# Altium footprint library Adafruit PyGamer.PCBLIB: 205 footprints (part 1 of 13)
Each footprint in its own frame and in the unit in brackets; x right, y up, seen from the top. Pads: shape width x height; smd on the part's side, far side on the other; paste and mask are expansions set on the pad; w line width, h text height; cw(c..) or ccw(c..) is an arc to the next point about the centre after c.
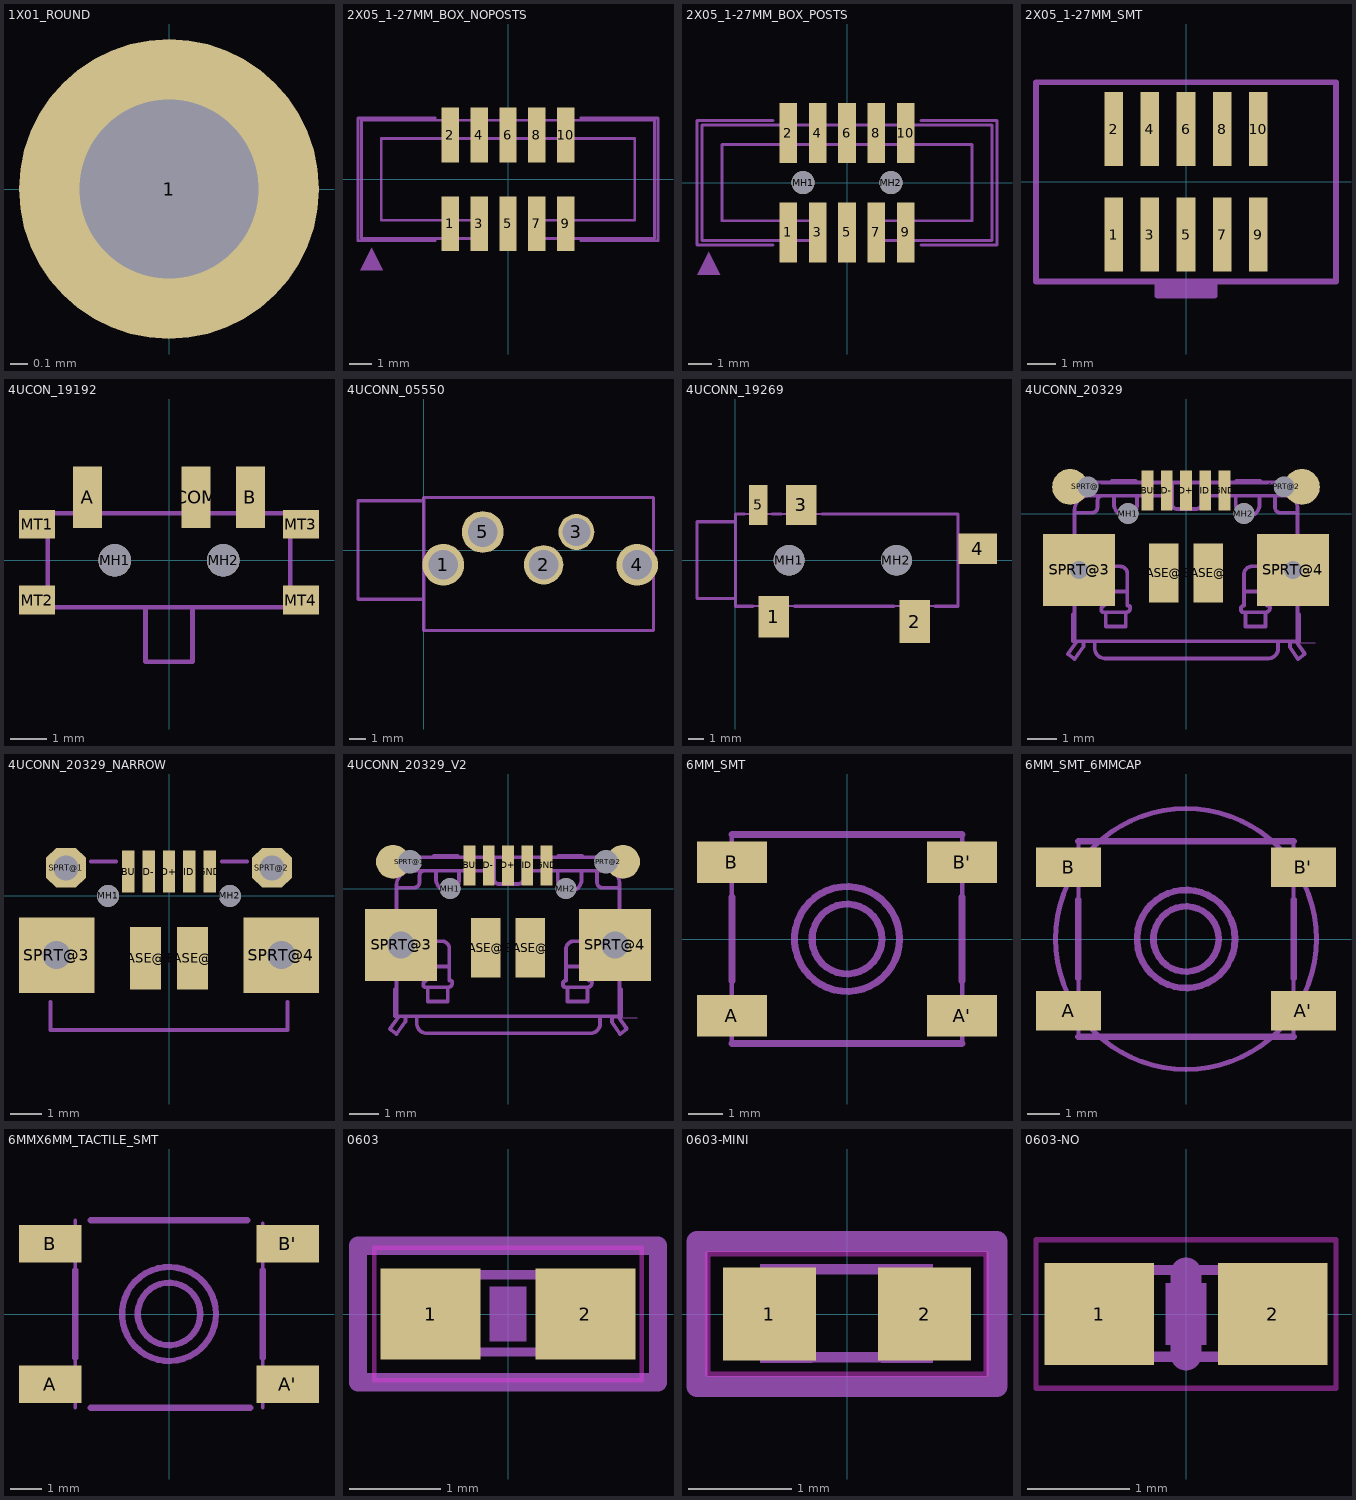
[diagram p0: the footprints below, top view; thin cyan lines are the x and y axes]

## 1X01_ROUND [mil]
pads (1):
  round 66 hole 39.37: 1(0,0)
tDocu:
  region: -10,-10 -10,10 10,10 10,-10

## 2X05_1-27MM_BOX_NOPOSTS [mil]
pads (10):
  rect 29.92x94.49 smd: 1(-100,-76.77) 2(-100,76.77) 3(-50,-76.77) 4(-50,76.77) 5(0,-76.77) 6(0,76.77) 7(50,-76.77) 8(50,76.77) 9(100,-76.77) 10(100,76.77)
tDocu:
  lines w5: -253.94,-102.36 -253.94,102.36 253.94,102.36 253.94,-102.36 47.24,-102.36 47.24,-70.87 219.49,-70.87 219.49,70.87 -219.49,70.87 -219.49,-70.87 -47.24,-70.87 -47.24,-102.36 -253.94,-102.36
tPlace:
  region: -255.91,-157.48 -216.54,-157.48 -236.22,-118.11
  lines w5: -125.98,-106.3 -259.84,-106.3 -259.84,106.3 -125.98,106.3 ; 125.98,-106.3 259.84,-106.3 259.84,106.3 125.98,106.3

## 2X05_1-27MM_BOX_POSTS [mm]
pads (12):
  rect 0.76x2.6 smd: 1(-2.54,-2.15) 2(-2.54,2.15) 3(-1.27,-2.15) 4(-1.27,2.15) 5(0,-2.15) 6(0,2.15) 7(1.27,-2.15) 8(1.27,2.15) 9(2.54,-2.15) 10(2.54,2.15)
  round 1 hole 1 unplated: MH1(-1.905,0) MH2(1.905,0)
tDocu:
  lines w0.127: -6.275,-2.5 -6.275,2.5 6.275,2.5 6.275,-2.5 1.25,-2.5 1.25,-1.65 5.425,-1.65 5.425,1.65 -5.425,1.65 -5.425,-1.65 -1.25,-1.65 -1.25,-2.5 -6.275,-2.5
tPlace:
  region: -6.5,-4 -5.5,-4 -6,-3
  lines w0.127: -3.2,-2.7 -6.5,-2.7 -6.5,2.7 -3.2,2.7 ; 3.2,-2.7 6.5,-2.7 6.5,2.7 3.2,2.7

## 2X05_1-27MM_SMT [mm]
pads (10):
  rect 0.65x2.6 smd: 1(-2.54,-1.85) 2(-2.54,1.85) 3(-1.27,-1.85) 4(-1.27,1.85) 5(0,-1.85) 6(0,1.85) 7(1.27,-1.85) 8(1.27,1.85) 9(2.54,-1.85) 10(2.54,1.85)
tPlace:
  region: 1.016,-3.556 1.016,-3.937 -1.016,-3.937 -1.016,-3.556
  lines w0.203: -1,-3.5 1,-3.5 ; -1,-3.5 -5.27,-3.5 -5.27,3.5 5.27,3.5 5.27,-3.5 1,-3.5 ; -1,-3.5 -1,-4 1,-4 1,-3.5

## 4UCON_19192 [mil]
pads (9):
  rect 31.5x66.93 smd: A(-88.58,68.9) B(88.58,68.9) COM(29.53,68.9)
  round 35.43 hole 35.43 unplated: MH1(-59.06,0) MH2(59.06,0)
  rect 39.37x31.5 smd: MT1(-143.7,39.37) MT2(-143.7,-43.31) MT3(143.7,39.37) MT4(143.7,-43.31)
tPlace:
  lines w5: -25.59,-51.18 25.59,-51.18 ; -25.59,-51.18 -131.89,-51.18 -131.89,51.18 131.89,51.18 131.89,-51.18 25.59,-51.18 ; -25.59,-51.18 -25.59,-110.24 25.59,-110.24 25.59,-51.18

## 4UCONN_05550 [mil]
pads (5):
  round 100 hole 70.87: 1(47.24,-35.43) 4(511.81,-35.43) 5(141.73,43.31)
  round 94.49 hole 70.87: 2(287.4,-35.43)
  round 86 hole 66.93: 3(366.14,43.31)
tDocu:
  lines w5: 0,-192.91 551.18,-192.91 ; 0,125.98 551.18,125.98
  lines w8: 0,-192.91 0,-118.11 ; 0,125.98 0,118.11 ; 551.18,-192.91 551.18,125.98 ; 0,-118.11 0,118.11 ; 0,-118.11 -157.48,-118.11 -157.48,118.11 0,118.11
tPlace:
  lines w8: 0,-192.91 551.18,-192.91 551.18,-110.24 ; 0,125.98 551.18,125.98 551.18,43.31

## 4UCONN_19269 [mm]
pads (7):
  rect 2x2.7 smd: 1(2.5,-3.7)
  rect 2x2.8 smd: 2(11.7,-4)
  rect 2x2.6 smd: 3(4.3,3.6)
  rect 2.5x2 smd: 4(15.8,0.75)
  rect 1.2x2.6 smd: 5(1.5,3.6)
  round 2 hole 2 unplated: MH1(3.5,0) MH2(10.5,0)
tDocu:
  region: 3.5,3 3.5,4.4 5.1,4.4 5.1,3
  region: 1.7,-4.45 1.7,-3.05 3.3,-3.05 3.3,-4.45
  region: 10.9,-4.45 10.9,-3.05 12.5,-3.05 12.5,-4.45
  region: 15.95,-0.05 14.55,-0.05 14.55,1.55 15.95,1.55
  region: 1.05,3 1.05,4.4 1.95,4.4 1.95,3
  region: 14.5,-0.1 14.5,1.6 16.7,1.6 16.7,-0.1
  region: 10.9,-5.2 10.9,-3 12.5,-3 12.5,-5.2
  region: 1.7,-4.7 1.7,-3 3.3,-3 3.3,-4.7
  region: 3.5,3 3.5,4.6 5.1,4.6 5.1,3
  region: 1,3 1,4.6 2,4.6 2,3
  lines w0.127: 0,-3 14.5,-3 ; 0,3 14.5,3
  lines w0.203: 0,-3 0,-2.5 ; 0,2.95 0,2.5 ; 14.5,-3 14.5,3 ; 0,-2.5 0,2.5 ; 0,-2.5 -2.5,-2.5 -2.5,2.5 0,2.5
tPlace:
  lines w0.203: 0,-3 0,3 0.6,3 ; 0.05,-3 1.15,-3 ; 2.4,3 3,3 ; 3.85,-3 10.35,-3 ; 5.65,3 14.5,3 14.5,2.1 ; 13,-3 14.5,-3 14.5,-0.6

## 4UCONN_20329 [mm]
pads (13):
  rect 1x2 smd: BASE@1(-0.75,-2) BASE@2(0.75,-2)
  rect 0.4x1.35 smd paste+0 mask+0: D+(0,0.775) D-(-0.65,0.775) GND(1.3,0.775) ID(0.65,0.775) VBUS(-1.3,0.775)
  round 0.7 hole 0.7 unplated: MH1(-1.95,0) MH2(1.95,0)
  round 1.208 hole 0.7 copper offset -0.604,0: SPRT@1(-3.3,0.9)
  round 1.208 hole 0.7 copper offset 0.604,0: SPRT@2(3.3,0.9)
  rect 2.413x2.413 / inner round 2.229 / far side rect 2.413x2.413 hole 0.6: SPRT@3(-3.6,-1.9) SPRT@4(3.6,-1.9)
Top Paste:
  region: -4.85,-3.15 -4.85,-0.65 -2.35,-0.65 -2.35,-3.15
  region: 2.35,-3.15 2.35,-0.65 4.85,-0.65 4.85,-3.15
  region: -1.45,0.15 -1.45,1.4 -1.15,1.4 -1.15,0.15
  region: -0.8,0.15 -0.8,1.4 -0.5,1.4 -0.5,0.15
  region: -0.15,0.15 -0.15,1.4 0.15,1.4 0.15,0.15
  region: 0.5,0.15 0.5,1.4 0.8,1.4 0.8,0.15
  region: 1.15,0.15 1.15,1.4 1.45,1.4 1.45,0.15
  region: -5.05,0.9 -5.045,0.786 -4.948,0.578 -4.78,0.423 -4.564,0.345 -4.45,0.35 -3.35,0.35 -3.236,0.345 -3.021,0.423 -2.852,0.578 -2.755,0.786 -2.75,0.9 -2.755,1.014 -2.852,1.222 -3.02,1.377 -3.236,1.455 -3.35,1.45 -4.45,1.45 -4.564,1.455 -4.78,1.377 -4.948,1.222 -5.045,1.014 -5.05,0.9
  region: 2.75,0.9 2.755,0.786 2.852,0.578 3.021,0.423 3.236,0.345 3.35,0.35 4.45,0.35 4.564,0.345 4.78,0.423 4.948,0.578 5.045,0.786 5.05,0.9 5.045,1.014 4.948,1.222 4.78,1.377 4.564,1.455 4.45,1.45 3.35,1.45 3.236,1.455 3.02,1.377 2.852,1.222 2.755,1.014 2.75,0.9
Top Solder:
  region: -1.55,0.05 -1.55,1.5 -1.05,1.5 -1.05,0.05
  region: -0.9,0.05 -0.9,1.5 -0.4,1.5 -0.4,0.05
  region: -0.25,0.05 -0.25,1.5 0.25,1.5 0.25,0.05
  region: 0.4,0.05 0.4,1.5 0.9,1.5 0.9,0.05
  region: 1.05,0.05 1.05,1.5 1.55,1.5 1.55,0.05
Dimension:
  lines w0: -3.9,-2.2 ccw(c-3.625,-2.175) -3.6,-2.45 ccw(c-3.575,-2.175) -3.3,-2.2 -3.3,-1.6 ccw(c-3.575,-1.625) -3.6,-1.35 ccw(c-3.625,-1.625) -3.9,-1.6 -3.9,-2.2 ; 3.3,-2.2 ccw(c3.575,-2.175) 3.6,-2.45 ccw(c3.625,-2.175) 3.9,-2.2 3.9,-1.6 ccw(c3.625,-1.625) 3.6,-1.35 ccw(c3.575,-1.625) 3.3,-1.6 3.3,-2.2
tDocu:
  lines w0: 3.5,-4.35 4.35,-4.35
  lines w0.127: -3.725,0.025 -3.175,0.025 ccw(c-3.175,0.225) -2.975,0.225 -2.975,0.45 cw(c-2.825,0.45) -2.825,0.6 ; -3.425,0.625 -3.425,0.75 -3.575,0.75 -3.575,1.05 -0.475,1.05 ; -2,-3.325 -2.7,-3.325 ; -2,-2.625 -2.75,-2.625 ; -0.125,0.175 -0.125,0.65 0.1,0.65 0.1,0.175 ; 2.7,-3.325 2,-3.325 ; 2.7,-2.625 1.95,-2.625 ; 3.5,-4.35 3.5,-4.5 3.775,-4.9 4,-4.725 3.7,-4.3 ; 3.725,0.025 3.175,0.025 cw(c3.175,0.2) 3,0.2 3,0.525 ccw(c2.925,0.525) 2.925,0.6 ; -3.675,-4.3 -3.75,-4.3 -3.75,0.125 cw(c-3.275,0.125) -3.275,0.6 -2.825,0.6 ; -3.675,-4.3 -3.45,-4.3 ; -3.675,-4.3 -3.975,-4.725 -3.75,-4.9 -3.45,-4.475 -3.45,-4.3 ; -3.45,-4.3 -3.075,-4.3 ; -3.075,-4.3 3.1,-4.3 ; -3.075,-4.3 -3.075,-4.525 ccw(c-2.725,-4.525) -2.725,-4.875 2.775,-4.875 ccw(c2.775,-4.55) 3.1,-4.55 3.1,-4.3 ; -2.825,0.6 -2.5,0.6 ; -2.75,-2.625 -2.75,-3.1 ccw(c-2.75,-3.2) -2.85,-3.2 -2.85,-3.225 ccw(c-2.762,-3.238) -2.775,-3.325 -2.7,-3.325 ; -2.75,-2.625 -2.75,-2.05 cw(c-2.475,-2.05) -2.475,-1.775 -2.225,-1.775 cw(c-2.225,-2.025) -1.975,-2.025 -1.975,-3.1 -1.95,-3.1 cw(c-1.95,-3.175) -1.875,-3.175 cw(c-2.025,-3.175) -2.025,-3.325 -2.025,-3.8 -2.7,-3.8 -2.7,-3.325 ; -2.5,0.6 -1.65,0.6 ; -2.5,0.6 cw(c-2.5,0.525) -2.425,0.525 -2.425,0.325 ccw(c-2,0.325) -2,-0.1 ccw(c-2,0.25) -1.65,0.25 -1.65,0.6 ; -1.65,0.6 -0.475,0.6 ; -0.475,0.6 -0.475,0.325 ccw(c-0.3,0.325) -0.3,0.15 0.325,0.15 ccw(c0.325,0.35) 0.525,0.35 0.525,0.6 ; -0.475,0.6 -0.475,1.05 ; -0.475,1.05 0.525,1.05 ; 0.525,0.6 1.675,0.6 ; 0.525,0.6 0.525,1.05 ; 0.525,1.05 3.6,1.05 3.6,0.775 3.35,0.775 3.35,0.6 ; 1.675,0.6 2.475,0.6 ; 1.675,0.6 1.675,0.3 ccw(c2.075,0.3) 2.075,-0.1 ccw(c2.075,0.3) 2.475,0.3 2.475,0.6 ; 1.95,-2.625 1.95,-3.1 ccw(c1.95,-3.2) 1.85,-3.2 1.85,-3.225 ccw(c1.938,-3.237) 1.925,-3.325 2,-3.325 ; 1.95,-2.625 1.95,-2.05 cw(c2.225,-2.05) 2.225,-1.775 2.475,-1.775 cw(c2.475,-2.025) 2.725,-2.025 2.725,-3.1 2.75,-3.1 cw(c2.75,-3.175) 2.825,-3.175 cw(c2.675,-3.175) 2.675,-3.325 2.675,-3.8 2,-3.8 2,-3.325 ; 2.475,0.6 2.925,0.6 ; 2.925,0.6 3.35,0.6 ; 3.1,-4.3 3.7,-4.3 ; 3.35,0.6 cw(c3.35,0.2) 3.75,0.2 3.75,-4.3 3.7,-4.3
  text "PCB EDGE" at 0,-4 h0.63
tPlace:
  lines w0.127: -3.8,-3.4 -3.8,-4.3 3.8,-4.3 3.8,-3.4 ; -2.5,1.1 -1.7,1.1 ; 1.7,1.1 2.5,1.1

## 4UCONN_20329_NARROW [mm]
pads (13):
  rect 1x2 smd: BASE@1(-0.75,-2) BASE@2(0.75,-2)
  rect 0.4x1.35 smd: D+(0,0.775) D-(-0.65,0.775) GND(1.3,0.775) ID(0.65,0.775) VBUS(-1.3,0.775)
  round 0.7 hole 0.7 unplated: MH1(-1.95,0) MH2(1.95,0)
  oct 1.27x1.27 / inner round 1.173 / far side oct 1.27x1.27 hole 0.8: SPRT@1(-3.3,0.9) SPRT@2(3.3,0.9)
  rect 2.413x2.413 / inner round 2.229 / far side rect 2.413x2.413 hole 0.9: SPRT@3(-3.6,-1.9) SPRT@4(3.6,-1.9)
Top Paste:
  region: -4.801,-3.099 -4.801,-0.686 -2.388,-0.686 -2.388,-3.099
  region: 2.388,-3.099 2.388,-0.686 4.801,-0.686 4.801,-3.099
  region: 3.048,1.524 3.581,1.524 3.937,1.168 3.937,0.686 3.556,0.305 3.048,0.305 2.692,0.66 2.692,1.168
  region: -3.581,1.524 -3.048,1.524 -2.692,1.168 -2.692,0.686 -3.073,0.305 -3.581,0.305 -3.937,0.66 -3.937,1.168
Milling:
  lines w0: -4.05,-2.15 ccw(c-3.675,-2.175) -3.7,-2.55 -3.5,-2.55 ccw(c-3.525,-2.175) -3.15,-2.15 -3.15,-1.6 ccw(c-3.5,-1.6) -3.5,-1.25 -3.7,-1.25 ccw(c-3.7,-1.6) -4.05,-1.6 -4.05,-2.15 ; 3.15,-2.2 ccw(c3.55,-2.15) 3.6,-2.55 ccw(c3.65,-2.15) 4.05,-2.2 4.05,-1.6 ccw(c3.65,-1.65) 3.6,-1.25 ccw(c3.55,-1.65) 3.15,-1.6 3.15,-2.2
tPlace:
  lines w0.127: -3.8,-3.4 -3.8,-4.3 3.8,-4.3 3.8,-3.4 ; -2.5,1.1 -1.7,1.1 ; 1.7,1.1 2.5,1.1

## 4UCONN_20329_V2 [mm]
pads (13):
  rect 1x2 smd: BASE@1(-0.75,-2) BASE@2(0.75,-2)
  rect 0.4x1.35 smd paste+0 mask+0: D+(0,0.775) D-(-0.65,0.775) GND(1.3,0.775) ID(0.65,0.775) VBUS(-1.3,0.775)
  round 0.7 hole 0.7 unplated: MH1(-1.95,0) MH2(1.95,0)
  round 1.143 hole 0.8 copper offset -0.572,0: SPRT@1(-3.3,0.9)
  round 1.143 hole 0.8 copper offset 0.572,0: SPRT@2(3.3,0.9)
  rect 2.413x2.413 / inner round 2.229 / far side rect 2.413x2.413 hole 0.9: SPRT@3(-3.6,-1.9) SPRT@4(3.6,-1.9)
Top Paste:
  region: -4.85,-3.15 -4.85,-0.65 -2.35,-0.65 -2.35,-3.15
  region: 2.35,-3.15 2.35,-0.65 4.85,-0.65 4.85,-3.15
  region: -1.45,0.15 -1.45,1.4 -1.15,1.4 -1.15,0.15
  region: -0.8,0.15 -0.8,1.4 -0.5,1.4 -0.5,0.15
  region: -0.15,0.15 -0.15,1.4 0.15,1.4 0.15,0.15
  region: 0.5,0.15 0.5,1.4 0.8,1.4 0.8,0.15
  region: 1.15,0.15 1.15,1.4 1.45,1.4 1.45,0.15
  region: -5.05,0.9 -5.045,0.786 -4.948,0.578 -4.78,0.423 -4.564,0.345 -4.45,0.35 -3.35,0.35 -3.236,0.345 -3.021,0.423 -2.852,0.578 -2.755,0.786 -2.75,0.9 -2.755,1.014 -2.852,1.222 -3.02,1.377 -3.236,1.455 -3.35,1.45 -4.45,1.45 -4.564,1.455 -4.78,1.377 -4.948,1.222 -5.045,1.014 -5.05,0.9
  region: 2.75,0.9 2.755,0.786 2.852,0.578 3.021,0.423 3.236,0.345 3.35,0.35 4.45,0.35 4.564,0.345 4.78,0.423 4.948,0.578 5.045,0.786 5.05,0.9 5.045,1.014 4.948,1.222 4.78,1.377 4.564,1.455 4.45,1.45 3.35,1.45 3.236,1.455 3.02,1.377 2.852,1.222 2.755,1.014 2.75,0.9
Top Solder:
  region: -1.55,0.05 -1.55,1.5 -1.05,1.5 -1.05,0.05
  region: -0.9,0.05 -0.9,1.5 -0.4,1.5 -0.4,0.05
  region: -0.25,0.05 -0.25,1.5 0.25,1.5 0.25,0.05
  region: 0.4,0.05 0.4,1.5 0.9,1.5 0.9,0.05
  region: 1.05,0.05 1.05,1.5 1.55,1.5 1.55,0.05
Milling:
  lines w0: -4.05,-2.15 ccw(c-3.675,-2.175) -3.7,-2.55 -3.5,-2.55 ccw(c-3.525,-2.175) -3.15,-2.15 -3.15,-1.6 ccw(c-3.5,-1.6) -3.5,-1.25 -3.7,-1.25 ccw(c-3.7,-1.6) -4.05,-1.6 -4.05,-2.15 ; 3.15,-2.2 ccw(c3.55,-2.15) 3.6,-2.55 ccw(c3.65,-2.15) 4.05,-2.2 4.05,-1.6 ccw(c3.65,-1.65) 3.6,-1.25 ccw(c3.55,-1.65) 3.15,-1.6 3.15,-2.2
tDocu:
  lines w0: 3.5,-4.35 4.35,-4.35
  lines w0.127: -3.725,0.025 -3.175,0.025 ccw(c-3.175,0.225) -2.975,0.225 -2.975,0.45 cw(c-2.825,0.45) -2.825,0.6 ; -3.425,0.625 -3.425,0.75 -3.575,0.75 -3.575,1.05 -0.475,1.05 ; -2,-3.325 -2.7,-3.325 ; -2,-2.625 -2.75,-2.625 ; -0.125,0.175 -0.125,0.65 0.1,0.65 0.1,0.175 ; 2.7,-3.325 2,-3.325 ; 2.7,-2.625 1.95,-2.625 ; 3.5,-4.35 3.5,-4.5 3.775,-4.9 4,-4.725 3.7,-4.3 ; 3.725,0.025 3.175,0.025 cw(c3.175,0.2) 3,0.2 3,0.525 ccw(c2.925,0.525) 2.925,0.6 ; -3.675,-4.3 -3.75,-4.3 -3.75,0.125 cw(c-3.275,0.125) -3.275,0.6 -2.825,0.6 ; -3.675,-4.3 -3.45,-4.3 ; -3.675,-4.3 -3.975,-4.725 -3.75,-4.9 -3.45,-4.475 -3.45,-4.3 ; -3.45,-4.3 -3.075,-4.3 ; -3.075,-4.3 3.1,-4.3 ; -3.075,-4.3 -3.075,-4.525 ccw(c-2.725,-4.525) -2.725,-4.875 2.775,-4.875 ccw(c2.775,-4.55) 3.1,-4.55 3.1,-4.3 ; -2.825,0.6 -2.5,0.6 ; -2.75,-2.625 -2.75,-3.1 ccw(c-2.75,-3.2) -2.85,-3.2 -2.85,-3.225 ccw(c-2.762,-3.238) -2.775,-3.325 -2.7,-3.325 ; -2.75,-2.625 -2.75,-2.05 cw(c-2.475,-2.05) -2.475,-1.775 -2.225,-1.775 cw(c-2.225,-2.025) -1.975,-2.025 -1.975,-3.1 -1.95,-3.1 cw(c-1.95,-3.175) -1.875,-3.175 cw(c-2.025,-3.175) -2.025,-3.325 -2.025,-3.8 -2.7,-3.8 -2.7,-3.325 ; -2.5,0.6 -1.65,0.6 ; -2.5,0.6 cw(c-2.5,0.525) -2.425,0.525 -2.425,0.325 ccw(c-2,0.325) -2,-0.1 ccw(c-2,0.25) -1.65,0.25 -1.65,0.6 ; -1.65,0.6 -0.475,0.6 ; -0.475,0.6 -0.475,0.325 ccw(c-0.3,0.325) -0.3,0.15 0.325,0.15 ccw(c0.325,0.35) 0.525,0.35 0.525,0.6 ; -0.475,0.6 -0.475,1.05 ; -0.475,1.05 0.525,1.05 ; 0.525,0.6 1.675,0.6 ; 0.525,0.6 0.525,1.05 ; 0.525,1.05 3.6,1.05 3.6,0.775 3.35,0.775 3.35,0.6 ; 1.675,0.6 2.475,0.6 ; 1.675,0.6 1.675,0.3 ccw(c2.075,0.3) 2.075,-0.1 ccw(c2.075,0.3) 2.475,0.3 2.475,0.6 ; 1.95,-2.625 1.95,-3.1 ccw(c1.95,-3.2) 1.85,-3.2 1.85,-3.225 ccw(c1.938,-3.237) 1.925,-3.325 2,-3.325 ; 1.95,-2.625 1.95,-2.05 cw(c2.225,-2.05) 2.225,-1.775 2.475,-1.775 cw(c2.475,-2.025) 2.725,-2.025 2.725,-3.1 2.75,-3.1 cw(c2.75,-3.175) 2.825,-3.175 cw(c2.675,-3.175) 2.675,-3.325 2.675,-3.8 2,-3.8 2,-3.325 ; 2.475,0.6 2.925,0.6 ; 2.925,0.6 3.35,0.6 ; 3.1,-4.3 3.7,-4.3 ; 3.35,0.6 cw(c3.35,0.2) 3.75,0.2 3.75,-4.3 3.7,-4.3
  text "PCB EDGE" at 0,-4 h0.63
tPlace:
  lines w0.127: -3.8,-3.4 -3.8,-4.3 3.8,-4.3 3.8,-3.4 ; -2.5,1.1 -1.7,1.1 ; 1.7,1.1 2.5,1.1

## 6MM_SMT [mm]
pads (4):
  rect 2x1.2 smd: A(-3.3,-2.2) A'(3.3,-2.2) B(-3.3,2.2) B'(3.3,2.2)
tDocu:
  lines w0.127: -3.3,-3 -3.3,3 ; 3.3,-3 3.3,3
tPlace:
  circle w0.203: c0,0 r1.503
  circle w0.203: c0,0 r1
  lines w0.203: -3.3,-3 3.3,-3 ; -3.3,-1.2 -3.3,1.2 ; -3.3,3 3.3,3 ; 3.3,-1.2 3.3,1.2

## 6MM_SMT_6MMCAP [mm]
pads (4):
  rect 2x1.2 smd: A(-3.6,-2.2) A'(3.6,-2.2) B(-3.6,2.2) B'(3.6,2.2)
tDocu:
  circle w0.152: c0,0 r4
  lines w0.127: -3.3,-3 -3.3,3 ; 3.3,-3 3.3,3
tPlace:
  circle w0.203: c0,0 r1.503
  circle w0.203: c0,0 r1
  lines w0.203: -3.3,-3 3.3,-3 ; -3.3,-1.2 -3.3,1.2 ; -3.3,3 3.3,3 ; 3.3,-1.2 3.3,1.2

## 6MMX6MM_TACTILE_SMT [mm]
pads (4):
  rect 2x1.2 smd: A(-3.8,-2.25) A'(3.8,-2.25) B(-3.8,2.25) B'(3.8,2.25)
tDocu:
  lines w0.127: -3,-3 -3,3 ; 3,-3 3,2.9
tPlace:
  circle w0.203: c0,0 r1.503
  circle w0.203: c0,0 r1
  lines w0.203: -3,-1.4 -3,1.4 ; -2.5,-3 2.6,-3 ; -2.5,3 2.5,3 ; 3,-1.4 3,1.4

## 0603 [mm]
pads (2):
  rect 1.1x1 smd: 1(-0.85,0) 2(0.85,0)
Top keep-out:
  lines w0.051: -1.473,-0.729 1.473,-0.729 1.473,0.729 -1.473,0.729 -1.473,-0.729
tDocu:
  region: -0.838,-0.47 -0.838,0.48 -0.338,0.48 -0.338,-0.47
  region: 0.33,-0.47 0.33,0.48 0.83,0.48 0.83,-0.47
  lines w0.102: -0.356,-0.419 0.356,-0.419 ; -0.356,0.432 0.356,0.432
tPlace:
  lines w0.203: -1.65,-0.75 1.65,-0.75 1.65,0.75 -1.65,0.75 -1.65,-0.75
tGlue:
  region: -0.2,-0.3 -0.2,0.3 0.2,0.3 0.2,-0.3

## 0603-MINI [mil]
pads (2):
  rect 35.43x35.43 smd: 1(-29.53,0) 2(29.53,0)
Top keep-out:
  lines w2: -52.99,-22.95 52.99,-22.95 52.99,22.95 -52.99,22.95 -52.99,-22.95
tDocu:
  region: -33,-18.5 -33,18.9 -13.31,18.9 -13.31,-18.5
  region: 13,-18.5 13,18.9 32.69,18.9 32.69,-18.5
  lines w4: -14.02,-16.5 14.02,-16.5 ; -14.02,17.01 14.02,17.01
tPlace:
  lines w8: -57.09,-27.56 -57.09,27.56 57.09,27.56 57.09,-27.56 -57.09,-27.56

## 0603-NO [mm]
pads (2):
  rect 1.075x1 smd: 1(-0.85,0) 2(0.85,0)
Top keep-out:
  lines w0.051: -1.473,-0.729 1.473,-0.729 1.473,0.729 -1.473,0.729 -1.473,-0.729
tDocu:
  region: -0.838,-0.47 -0.838,0.48 -0.338,0.48 -0.338,-0.47
  region: 0.33,-0.47 0.33,0.48 0.83,0.48 0.83,-0.47
  lines w0.102: -0.356,-0.419 0.356,-0.419 ; -0.356,0.432 0.356,0.432
tPlace:
  lines w0.305: 0,-0.4 0,0.4
tGlue:
  region: -0.2,-0.3 -0.2,0.3 0.2,0.3 0.2,-0.3